# Altium integrated library MK22FN512.IntLib: 1 symbol
Pins are listed as number, name and electrical type; pins without a type are passive.

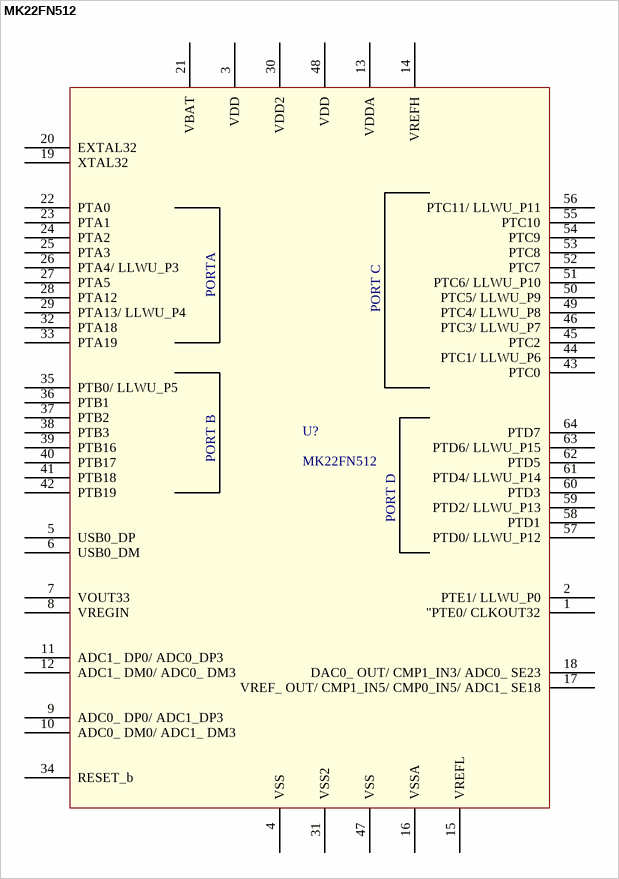
[diagram p0: symbol MK22FN512]

## MK22FN512
designator U?
120 MHz Cortex-M4 Based Microcontroller with FPU
footprint MK22FN512_TSQFP50P1200X1200X160-64N (120 MHz Cortex-M4 Based Microcontroller with FPU)
pins: 1 "PTE0/ CLKOUT32, 2 PTE1/ LLWU_P0 "ADC1_ SE5a", 3 VDD, 4 VSS, 5 USB0_DP, 6 USB0_DM, 7 VOUT33, 8 VREGIN, 9 ADC0_ DP0/ ADC1_DP3, 10 ADC0_ DM0/ ADC1_ DM3, 11 ADC1_ DP0/ ADC0_DP3, 12 ADC1_ DM0/ ADC0_ DM3, 13 VDDA, 14 VREFH, 15 VREFL, 16 VSSA, 17 VREF_ OUT/ CMP1_IN5/ CMP0_IN5/ ADC1_ SE18, 18 DAC0_ OUT/ CMP1_IN3/ ADC0_ SE23, 19 XTAL32, 20 EXTAL32, 21 VBAT, 22 PTA0 "JTAG_ TCLK/ SWD_CLK/ EZP_CLK", 23 PTA1 "JTAG_TDI/ EZP_DI", 24 PTA2 "JTAG_ TDO/ TRACE_ SWO/ EZP_DO", 25 PTA3 "JTAG_ TMS/ SWD_DIO", 26 PTA4/ LLWU_P3 "NMI_b/ EZP_CS_b", 27 PTA5 "DISABLED", 28 PTA12 "DISABLED", 29 PTA13/ LLWU_P4 "DISABLED", 30 VDD2, 31 VSS2, 32 PTA18 "EXTAL0", 33 PTA19 "XTAL0", 34 RESET_b, 35 PTB0/ LLWU_P5 "ADC0_ SE8/ ADC1_SE8", 36 PTB1 "ADC0_ SE9/ ADC1_SE9", 37 PTB2 "ADC0_ SE12", 38 PTB3 "ADC0_ SE13", 39 PTB16 "DISABLED", 40 PTB17 "DISABLED", 41 PTB18 "DISABLED", 42 PTB19 "DISABLED", 43 PTC0 "ADC0_ SE14", 44 PTC1/ LLWU_P6 "ADC0_ SE15", 45 PTC2 "ADC0_ SE4b/ CMP1_IN0", 46 PTC3/ LLWU_P7 "CMP1_IN1", 47 VSS, 48 VDD, 49 PTC4/ LLWU_P8 "DISABLED", 50 PTC5/ LLWU_P9 "DISABLED", 51 PTC6/ LLWU_P10 "CMP0_IN0", 52 PTC7 "CMP0_IN1", 53 PTC8 "ADC1_ SE4b/ CMP0_IN2", 54 PTC9 "ADC1_ SE5b/ CMP0_IN3", 55 PTC10 "ADC1_ SE6b", 56 PTC11/ LLWU_P11 "ADC1_ SE7b", 57 PTD0/ LLWU_P12 "DISABLED", 58 PTD1 "ADC0_ SE5b", 59 PTD2/ LLWU_P13 "DISABLED", 60 PTD3 "DISABLED", 61 PTD4/ LLWU_P14 "DISABLED", 62 PTD5 "ADC0_ SE6b", 63 PTD6/ LLWU_P15 "ADC0_ SE7b", 64 PTD7 "DISABLED"
text: PORTA; PORT C; PORT B; PORT D